# Altium schematic symbol library W25Q64JWSSIQ.SchLib: 1 symbol
Pins are listed as number, name and electrical type; pins without a type are passive.

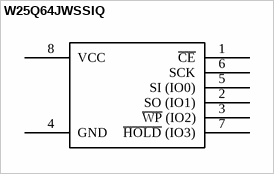
[diagram p0: symbol W25Q64JWSSIQ]

## W25Q64JWSSIQ
designator ?
64Mbit 1V8 SOIC-8-208mil NOR FLASH ROHS
pins: 1 ~{CE}, 2 SO (IO1), 3 ~{WP} (IO2), 4 GND, 5 SI (IO0), 6 SCK, 7 ~{HOLD} (IO3), 8 VCC